# Altium footprint library Connector.PcbLib: 170 footprints (part 4 of 11)
Each footprint in its own frame and in the unit in brackets; x right, y up, seen from the top. Pads: shape width x height; smd on the part's side, far side on the other; paste and mask are expansions set on the pad; w line width, h text height; cw(c..) or ccw(c..) is an arc to the next point about the centre after c.
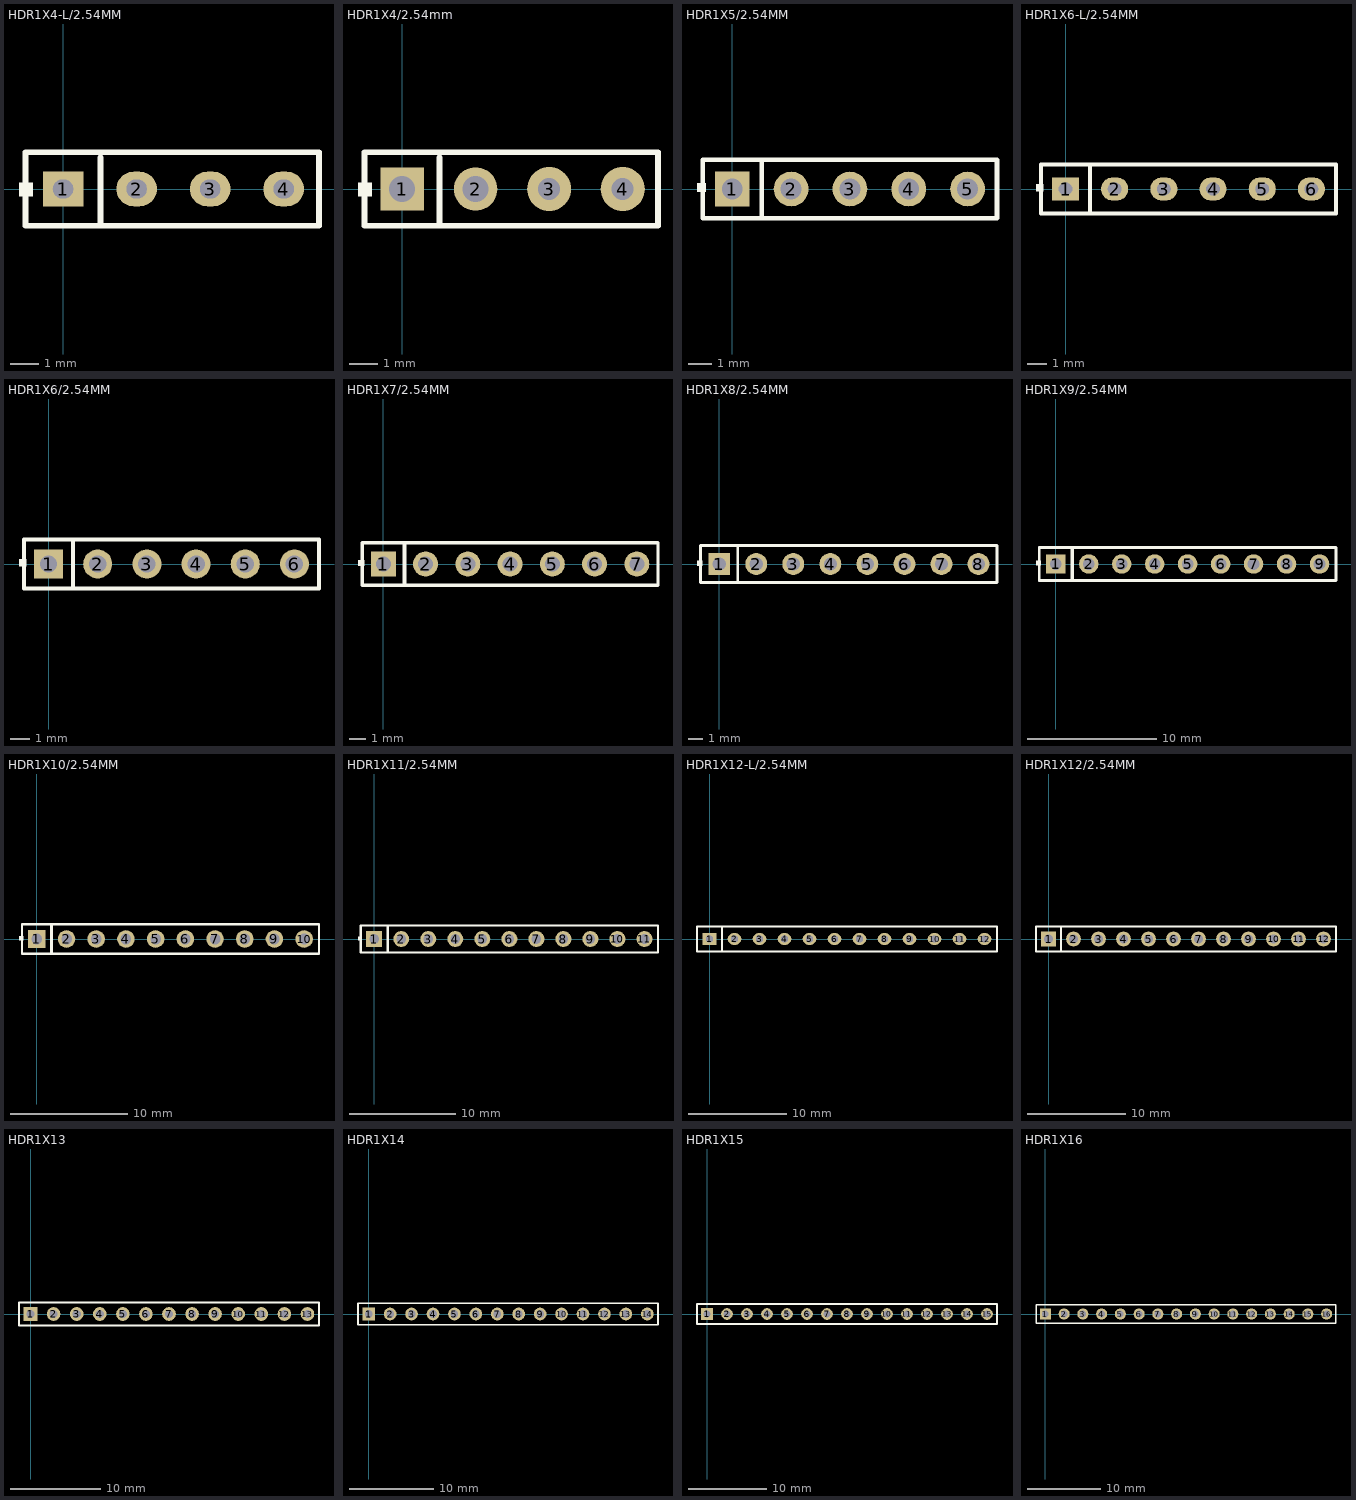
[diagram p3: the footprints below, top view; thin cyan lines are the x and y axes]

## HDR1X4-L/2.54MM [mm]
pads (4):
  rect 1.4x1.2 hole 0.65 slot 0.7 at 0 deg: 1(0,0)
  oval 1.4x1.2 hole 0.65 slot 0.7 at 0 deg: 2(2.54,0) 3(5.08,0) 4(7.62,0)
Top Overlay:
  rectangle: -1.524,-0.254 -1.041,0.229
  lines w0.2: 1.295,-1.143 1.295,1.092 ; -1.295,-1.27 -1.295,1.27 8.839,1.27 8.839,-1.27 -1.295,-1.27

## HDR1X4/2.54mm [mm]
pads (4):
  rect 1.5x1.5 hole 0.9: 1(0,0)
  round 1.5 hole 0.9: 2(2.54,0)
  round 1.524 hole 0.762: 3(5.08,0) 4(7.62,0)
Top Overlay:
  rectangle: -1.524,-0.254 -1.041,0.229
  lines w0.2: 1.295,-1.143 1.295,1.092 ; -1.295,-1.27 8.839,-1.27 8.839,1.27 -1.295,1.27 -1.295,-1.27
3D body: height 8.51, standoff -3.68, extent 6.353,-1.476 8.893,1.444
3D body: height 8.51, standoff -3.68, extent 3.813,-1.476 6.353,1.444
3D body: height 8.51, standoff -3.68, extent 1.273,-1.476 3.813,1.444
3D body: height 8.51, standoff -3.68, extent -1.267,-1.476 1.273,1.444

## HDR1X5/2.54MM [mm] "Connector; Header; 5 Position"
pads (5):
  rect 1.5x1.5 hole 0.9: 1(0,0)
  round 1.5 hole 0.9: 2(2.54,0) 3(5.08,0) 4(7.62,0) 5(10.16,0)
Top Overlay:
  rectangle: -1.524,-0.127 -1.143,0.254
  lines w0.2: 1.27,-1.143 1.27,1.27 ; -1.27,-1.27 -1.27,1.27 11.43,1.27 11.43,-1.27 -1.27,-1.27
3D body: height 8.51, standoff -3.68, extent 6.328,-1.451 8.868,1.469
3D body: height 8.51, standoff -3.68, extent 8.868,-1.451 11.408,1.469
3D body: height 8.51, standoff -3.68, extent 3.788,-1.451 6.328,1.469
3D body: height 8.51, standoff -3.68, extent 1.248,-1.451 3.788,1.469
3D body: height 8.51, standoff -3.68, extent -1.292,-1.451 1.248,1.469

## HDR1X6-L/2.54MM [mm] "Connector; Header; 6 Position"
pads (6):
  rect 1.4x1.2 hole 0.65 slot 0.7 at 0 deg: 1(0,0)
  oval 1.4x1.2 hole 0.65 slot 0.7 at 0 deg: 2(2.54,0) 3(5.08,0) 4(7.62,0) 5(10.16,0) 6(12.7,0)
Top Overlay:
  rectangle: -1.524,-0.127 -1.143,0.254
  lines w0.2: 1.27,-1.27 1.27,1.27 ; -1.27,-1.27 13.97,-1.27 13.97,1.27 -1.27,1.27 -1.27,-1.27

## HDR1X6/2.54MM [mm] "Connector; Header; 6 Position"
pads (6):
  rect 1.5x1.5 hole 0.9: 1(0,0)
  round 1.5 hole 0.9: 2(2.54,0) 3(5.08,0) 4(7.62,0) 5(10.16,0) 6(12.7,0)
Top Overlay:
  rectangle: -1.524,-0.127 -1.143,0.254
  lines w0.2: 1.27,-1.27 1.27,1.27 ; -1.27,-1.27 -1.27,1.27 13.97,1.27 13.97,-1.27 -1.27,-1.27
3D body: height 8.51, standoff -3.68, extent -1.317,-1.501 1.223,1.419
3D body: height 8.51, standoff -3.68, extent 1.223,-1.501 3.763,1.419
3D body: height 8.51, standoff -3.68, extent 3.763,-1.501 6.303,1.419
3D body: height 8.51, standoff -3.68, extent 11.383,-1.501 13.923,1.419
3D body: height 8.51, standoff -3.68, extent 8.843,-1.501 11.383,1.419
3D body: height 8.51, standoff -3.68, extent 6.303,-1.501 8.843,1.419

## HDR1X7/2.54MM [mm] "Connector; Header; 7 Position"
pads (7):
  rect 1.5x1.5 hole 0.9: 1(0,0)
  round 1.5 hole 0.9: 2(2.54,0) 3(5.08,0) 4(7.62,0) 5(10.16,0) 6(12.7,0) 7(15.24,0)
Top Overlay:
  rectangle: -1.524,-0.127 -1.143,0.254
  lines w0.2: -1.27,-1.27 16.51,-1.27 16.51,1.27 -1.27,1.27 -1.27,-1.27
  lines w0.254: 1.27,-1.143 1.27,1.143
3D body: height 8.51, standoff -3.68, extent -1.262,-1.451 1.278,1.469
3D body: height 8.51, standoff -3.68, extent 1.278,-1.451 3.818,1.469
3D body: height 8.51, standoff -3.68, extent 8.898,-1.451 11.438,1.469
3D body: height 8.51, standoff -3.68, extent 6.358,-1.451 8.898,1.469
3D body: height 8.51, standoff -3.68, extent 3.818,-1.451 6.358,1.469
3D body: height 8.51, standoff -3.68, extent 11.438,-1.451 13.978,1.469
3D body: height 8.51, standoff -3.68, extent 13.978,-1.451 16.518,1.469

## HDR1X8/2.54MM [mm] "Connector; Header; 8 Position"
pads (8):
  rect 1.5x1.5 hole 0.9: 1(0,0)
  round 1.5 hole 0.9: 2(2.54,0) 3(5.08,0) 4(7.62,0) 5(10.16,0) 6(12.7,0) 7(15.24,0) 8(17.78,0)
Top Overlay:
  rectangle: -1.524,-0.127 -1.143,0.254
  lines w0.2: 1.27,-1.143 1.27,1.143 ; -1.27,-1.27 19.05,-1.27 19.05,1.27 -1.27,1.27 -1.27,-1.27
3D body: height 8.51, standoff -3.68, extent -1.287,-1.476 1.253,1.444
3D body: height 8.51, standoff -3.68, extent 1.253,-1.476 3.793,1.444
3D body: height 8.51, standoff -3.68, extent 8.873,-1.476 11.413,1.444
3D body: height 8.51, standoff -3.68, extent 6.333,-1.476 8.873,1.444
3D body: height 8.51, standoff -3.68, extent 3.793,-1.476 6.333,1.444
3D body: height 8.51, standoff -3.68, extent 11.413,-1.476 13.953,1.444
3D body: height 8.51, standoff -3.68, extent 13.953,-1.476 16.493,1.444
3D body: height 8.51, standoff -3.68, extent 16.493,-1.476 19.033,1.444

## HDR1X9/2.54MM [mm] "Connector; Header; 9 Position"
pads (9):
  rect 1.5x1.5 hole 0.9: 1(0,0)
  round 1.5 hole 0.9: 2(2.54,0) 3(5.08,0) 4(7.62,0) 5(10.16,0) 6(12.7,0) 7(15.24,0) 8(17.78,0) 9(20.32,0)
Top Overlay:
  rectangle: -1.524,-0.127 -1.143,0.254
  lines w0.2: -1.27,-1.27 21.59,-1.27 21.59,1.27 -1.27,1.27 -1.27,-1.27
  lines w0.254: 1.27,-1.143 1.27,1.143
3D body: height 8.51, standoff -3.68, extent -1.262,-1.476 1.278,1.444
3D body: height 8.51, standoff -3.68, extent 1.278,-1.476 3.818,1.444
3D body: height 8.51, standoff -3.68, extent 8.898,-1.476 11.438,1.444
3D body: height 8.51, standoff -3.68, extent 6.358,-1.476 8.898,1.444
3D body: height 8.51, standoff -3.68, extent 3.818,-1.476 6.358,1.444
3D body: height 8.51, standoff -3.68, extent 11.438,-1.476 13.978,1.444
3D body: height 8.51, standoff -3.68, extent 13.978,-1.476 16.518,1.444
3D body: height 8.51, standoff -3.68, extent 19.058,-1.476 21.598,1.444
3D body: height 8.51, standoff -3.68, extent 16.518,-1.476 19.058,1.444

## HDR1X10/2.54MM [mm] "Connector; Header; 10 Position"
pads (10):
  rect 1.5x1.5 hole 0.9: 1(0,0)
  round 1.5 hole 0.9: 2(2.54,0) 3(5.08,0) 4(7.62,0) 5(10.16,0) 6(12.7,0) 7(15.24,0) 8(17.78,0) 9(20.32,0) 10(22.86,0)
Top Overlay:
  rectangle: -1.524,-0.127 -1.143,0.254
  lines w0.2: -1.27,-1.27 -1.27,1.27 0.635,1.27 24.13,1.27 24.13,-1.27 -1.27,-1.27
  lines w0.254: 1.27,-1.143 1.27,1.143
3D body: height 8.51, standoff -3.68, extent -1.287,-1.451 1.253,1.469
3D body: height 8.51, standoff -3.68, extent 1.253,-1.451 3.793,1.469
3D body: height 8.51, standoff -3.68, extent 8.873,-1.451 11.413,1.469
3D body: height 8.51, standoff -3.68, extent 6.333,-1.451 8.873,1.469
3D body: height 8.51, standoff -3.68, extent 3.793,-1.451 6.333,1.469
3D body: height 8.51, standoff -3.68, extent 11.413,-1.451 13.953,1.469
3D body: height 8.51, standoff -3.68, extent 13.953,-1.451 16.493,1.469
3D body: height 8.51, standoff -3.68, extent 21.573,-1.451 24.113,1.469
3D body: height 8.51, standoff -3.68, extent 19.033,-1.451 21.573,1.469
3D body: height 8.51, standoff -3.68, extent 16.493,-1.451 19.033,1.469

## HDR1X11/2.54MM [mm] "Connector; Header; 11 Position"
pads (11):
  rect 1.5x1.5 hole 0.9: 1(0,0)
  round 1.5 hole 0.9: 2(2.54,0) 3(5.08,0) 4(7.62,0) 5(10.16,0) 6(12.7,0) 7(15.24,0) 8(17.78,0) 9(20.32,0) 10(22.86,0) 11(25.4,0)
Top Overlay:
  rectangle: -1.524,-0.127 -1.143,0.254
  lines w0.2: 1.27,-1.143 1.27,1.143 ; -1.27,-1.27 26.67,-1.27 26.67,1.27 0.635,1.27 -1.27,1.27 -1.27,-1.27
3D body: height 8.51, standoff -3.68, extent 16.568,-1.451 19.108,1.469
3D body: height 8.51, standoff -3.68, extent 19.108,-1.451 21.648,1.469
3D body: height 8.51, standoff -3.68, extent 21.648,-1.451 24.188,1.469
3D body: height 8.51, standoff -3.68, extent 14.028,-1.451 16.568,1.469
3D body: height 8.51, standoff -3.68, extent 11.488,-1.451 14.028,1.469
3D body: height 8.51, standoff -3.68, extent 3.868,-1.451 6.408,1.469
3D body: height 8.51, standoff -3.68, extent 6.408,-1.451 8.948,1.469
3D body: height 8.51, standoff -3.68, extent 8.948,-1.451 11.488,1.469
3D body: height 8.51, standoff -3.68, extent 1.328,-1.451 3.868,1.469
3D body: height 8.51, standoff -3.68, extent -1.212,-1.451 1.328,1.469
3D body: height 8.51, standoff -3.68, extent 24.188,-1.451 26.728,1.469

## HDR1X12-L/2.54MM [mm] "Connector; Header; 12 Position"
pads (12):
  rect 1.4x1.2 hole 0.65 slot 0.7 at 0 deg: 1(0,0)
  oval 1.4x1.2 hole 0.65 slot 0.7 at 0 deg: 2(2.54,0) 3(5.08,0) 4(7.62,0) 5(10.16,0) 6(12.7,0) 7(15.24,0) 8(17.78,0) 9(20.32,0) 10(22.86,0) 11(25.4,0) 12(27.94,0)
Top Overlay:
  lines w0.2: 1.27,-1.27 1.27,1.27 ; -1.27,-1.27 -1.27,1.27 0.635,1.27 29.21,1.27 29.21,-1.27 -1.27,-1.27

## HDR1X12/2.54MM [mm] "Connector; Header; 12 Position"
pads (12):
  rect 1.5x1.5 hole 0.9: 1(0,0)
  round 1.5 hole 0.9: 2(2.54,0) 3(5.08,0) 4(7.62,0) 5(10.16,0) 6(12.7,0) 7(15.24,0) 8(17.78,0) 9(20.32,0) 10(22.86,0) 11(25.4,0) 12(27.94,0)
Top Overlay:
  lines w0.2: 1.27,-1.27 1.27,1.27 ; 29.205,-1.27 29.205,1.27 ; 29.21,-1.27 -1.27,-1.27 -1.27,1.27 0.635,1.27 29.21,1.27
3D body: height 8.51, standoff -3.68, extent 26.653,-1.476 29.193,1.444
3D body: height 8.51, standoff -3.68, extent 24.113,-1.476 26.653,1.444
3D body: height 8.51, standoff -3.68, extent -1.287,-1.476 1.253,1.444
3D body: height 8.51, standoff -3.68, extent 1.253,-1.476 3.793,1.444
3D body: height 8.51, standoff -3.68, extent 8.873,-1.476 11.413,1.444
3D body: height 8.51, standoff -3.68, extent 6.333,-1.476 8.873,1.444
3D body: height 8.51, standoff -3.68, extent 3.793,-1.476 6.333,1.444
3D body: height 8.51, standoff -3.68, extent 11.413,-1.476 13.953,1.444
3D body: height 8.51, standoff -3.68, extent 13.953,-1.476 16.493,1.444
3D body: height 8.51, standoff -3.68, extent 21.573,-1.476 24.113,1.444
3D body: height 8.51, standoff -3.68, extent 19.033,-1.476 21.573,1.444
3D body: height 8.51, standoff -3.68, extent 16.493,-1.476 19.033,1.444

## HDR1X13 [mm] "Connector; Header; 13 Position"
pads (13):
  rect 1.5x1.5 hole 0.9: 1(0,0)
  round 1.5 hole 0.9: 2(2.54,0) 3(5.08,0) 4(7.62,0) 5(10.16,0) 6(12.7,0) 7(15.24,0) 8(17.78,0) 9(20.32,0) 10(22.86,0) 11(25.4,0) 12(27.94,0) 13(30.48,0)
Top Overlay:
  lines w0.2: -1.27,-1.27 31.75,-1.27 31.75,1.27 0.635,1.27 -1.27,1.27 -1.27,-1.27
3D body: height 8.51, standoff -3.68, extent 24.153,-1.501 26.693,1.419
3D body: height 8.51, standoff -3.68, extent 26.693,-1.501 29.233,1.419
3D body: height 8.51, standoff -3.68, extent 29.233,-1.501 31.773,1.419
3D body: height 8.51, standoff -3.68, extent 21.613,-1.501 24.153,1.419
3D body: height 8.51, standoff -3.68, extent 19.073,-1.501 21.613,1.419
3D body: height 8.51, standoff -3.68, extent 16.533,-1.501 19.073,1.419
3D body: height 8.51, standoff -3.68, extent 13.998,-1.501 16.538,1.419
3D body: height 8.51, standoff -3.68, extent 6.378,-1.501 8.918,1.419
3D body: height 8.51, standoff -3.68, extent 8.918,-1.501 11.458,1.419
3D body: height 8.51, standoff -3.68, extent 11.458,-1.501 13.998,1.419
3D body: height 8.51, standoff -3.68, extent 3.838,-1.501 6.378,1.419
3D body: height 8.51, standoff -3.68, extent 1.298,-1.501 3.838,1.419
3D body: height 8.51, standoff -3.68, extent -1.242,-1.501 1.298,1.419

## HDR1X14 [mm] "Connector; Header; 14 Position"
pads (14):
  rect 1.5x1.5 hole 0.9: 1(0,0)
  round 1.5 hole 0.9: 2(2.54,0) 3(5.08,0) 4(7.62,0) 5(10.16,0) 6(12.7,0) 7(15.24,0) 8(17.78,0) 9(20.32,0) 10(22.86,0) 11(25.4,0) 12(27.94,0) 13(30.48,0) 14(33.02,0)
Top Overlay:
  lines w0.2: -1.27,-1.27 -1.27,1.27 0.635,1.27 34.29,1.27 34.29,-1.27 -1.27,-1.27

## HDR1X15 [mm] "Connector; Header; 15 Position"
pads (15):
  rect 1.5x1.5 hole 0.9: 1(0,0)
  round 1.5 hole 0.9: 2(2.54,0) 3(5.08,0) 4(7.62,0) 5(10.16,0) 6(12.7,0) 7(15.24,0) 8(17.78,0) 9(20.32,0) 10(22.86,0) 11(25.4,0) 12(27.94,0) 13(30.48,0) 14(33.02,0) 15(35.56,0)
Top Overlay:
  lines w0.2: -1.27,-1.27 36.83,-1.27 36.83,1.27 0.635,1.27 -1.27,1.27 -1.27,-1.27

## HDR1X16 [mm] "Connector; Header; 16 Position"
pads (16):
  rect 1.5x1.5 hole 0.9: 1(0,0)
  round 1.5 hole 0.9: 2(2.54,0) 3(5.08,0) 4(7.62,0) 5(10.16,0) 6(12.7,0) 7(15.24,0) 8(17.78,0) 9(20.32,0) 10(22.86,0) 11(25.4,0) 12(27.94,0) 13(30.48,0) 14(33.02,0) 15(35.56,0) 16(38.1,0)
Top Overlay:
  lines w0.2: -1.27,-1.27 -1.27,1.27 0.635,1.27 39.37,1.27 39.37,-1.27 -1.27,-1.27